# Altium footprint library Inductor_SMD.PcbLib: 587 footprints (part 35 of 37)
Each footprint in its own frame and in the unit in brackets; x right, y up, seen from the top. Pads: shape width x height; smd on the part's side, far side on the other; paste and mask are expansions set on the pad; w line width, h text height; cw(c..) or ccw(c..) is an arc to the next point about the centre after c.
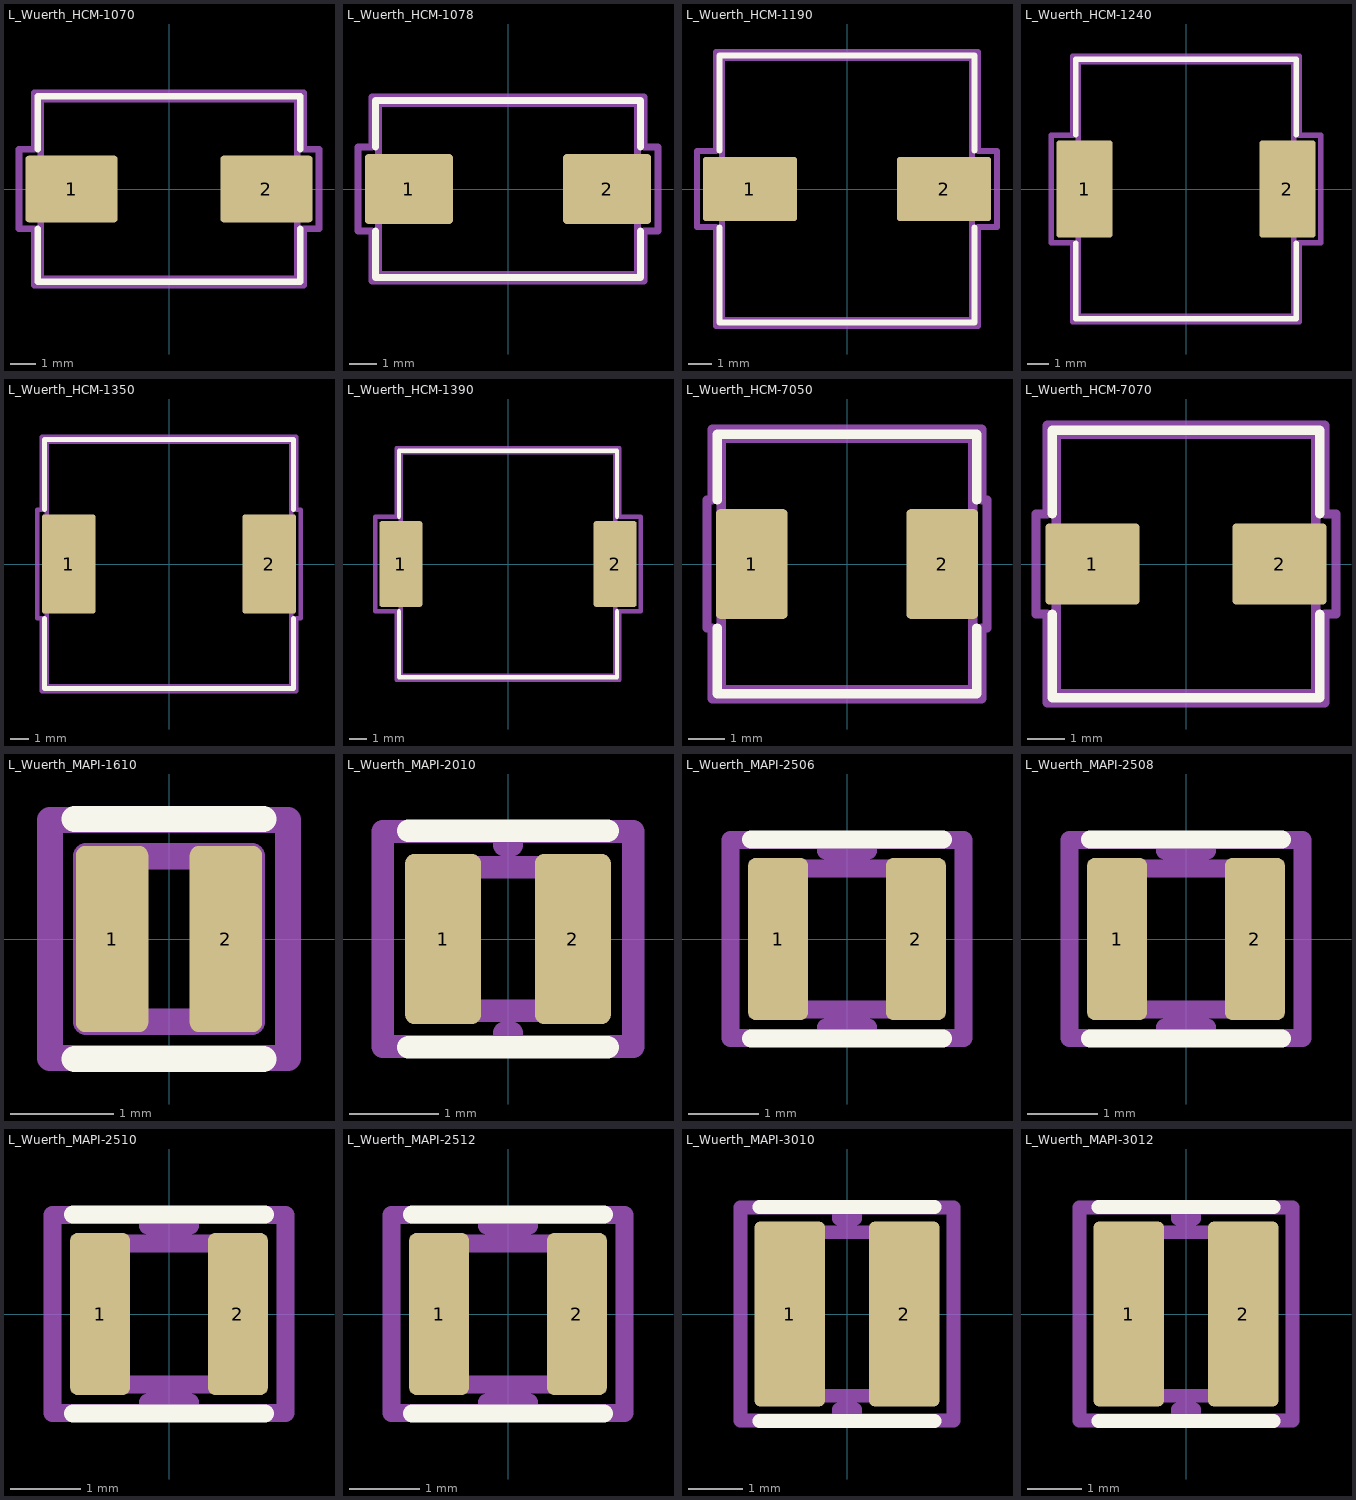
[diagram p34: the footprints below, top view; thin cyan lines are the x and y axes]

## L_Wuerth_HCM-1070 [mm] "L_Wuerth_HCM-1070"
pads (2):
  rrect10% 3.6x2.6 smd: 1(-3.8,0) 2(3.8,0)
F.SilkS:
  lines w0.254: -5.11,-1.56 -5.11,-3.61 5.11,-3.61 5.11,-1.56 ; -5.11,1.56 -5.11,3.61 5.11,3.61 5.11,1.56
Top Assembly:
  lines w0.254: -5,-3.5 -5,3.5 5,3.5 5,-3.5 -5,-3.5
  text "'.Designator'" at -4.047,-0.84 h1
Top Courtyard:
  lines w0.254: -5.85,-1.55 -5.85,1.55 -5.25,1.55 -5.25,3.75 5.25,3.75 5.25,1.55 5.85,1.55 5.85,-1.55 5.25,-1.55 5.25,-3.75 -5.25,-3.75 -5.25,-1.55 -5.85,-1.55
Top Designator:
  text ".Designator" at -7.618,-0.508 h1.52

## L_Wuerth_HCM-1078 [mm] "L_Wuerth_HCM-1078"
pads (2):
  rrect10% 3.2x2.54 smd: 1(-3.6,0) 2(3.6,0)
F.SilkS:
  lines w0.254: -4.81,-1.53 -4.81,-3.21 4.81,-3.21 4.81,-1.53 ; -4.81,1.53 -4.81,3.21 4.81,3.21 4.81,1.53
Top Assembly:
  lines w0.254: -4.7,-3.1 -4.7,3.1 4.7,3.1 4.7,-3.1 -4.7,-3.1
  text "'.Designator'" at -4.047,-0.84 h1
Top Courtyard:
  lines w0.254: -5.45,-1.52 -5.45,1.52 -4.95,1.52 -4.95,3.35 4.95,3.35 4.95,1.52 5.45,1.52 5.45,-1.52 4.95,-1.52 4.95,-3.35 -4.95,-3.35 -4.95,-1.52 -5.45,-1.52
Top Designator:
  text ".Designator" at -7.618,-0.508 h1.52

## L_Wuerth_HCM-1190 [mm] "L_Wuerth_HCM-1190"
pads (2):
  rrect9% 3.95x2.7 smd: 1(-4.075,0) 2(4.075,0)
F.SilkS:
  lines w0.254: -5.36,-1.61 -5.36,-5.61 5.36,-5.61 5.36,-1.61 ; -5.36,1.61 -5.36,5.61 5.36,5.61 5.36,1.61
Top Assembly:
  lines w0.254: -5.25,-5.5 5.25,-5.5 5.25,5.5 -5.25,5.5 -5.25,-5.5
  text "'.Designator'" at -4.047,-0.84 h1
Top Courtyard:
  lines w0.254: -6.3,-1.6 -5.5,-1.6 -5.5,-5.75 5.5,-5.75 5.5,-1.6 6.3,-1.6 6.3,1.6 5.5,1.6 5.5,5.75 -5.5,5.75 -5.5,1.6 -6.3,1.6 -6.3,-1.6
Top Designator:
  text ".Designator" at -7.618,-0.508 h1.52

## L_Wuerth_HCM-1240 [mm] "L_Wuerth_HCM-1240"
pads (2):
  rrect10% 2.6x4.5 smd: 1(-4.7,0) 2(4.7,0)
F.SilkS:
  lines w0.254: -5.11,-2.51 -5.11,-6.01 5.11,-6.01 5.11,-2.51 ; -5.11,2.51 -5.11,6.01 5.11,6.01 5.11,2.51
Top Assembly:
  lines w0.254: -5,-5.9 5,-5.9 5,5.9 -5,5.9 -5,-5.9
  text "'.Designator'" at -4.047,-0.84 h1
Top Courtyard:
  lines w0.254: -6.25,-2.5 -5.25,-2.5 -5.25,-6.15 5.25,-6.15 5.25,-2.5 6.25,-2.5 6.25,2.5 5.25,2.5 5.25,6.15 -5.25,6.15 -5.25,2.5 -6.25,2.5 -6.25,-2.5
Top Designator:
  text ".Designator" at -7.618,-0.508 h1.52

## L_Wuerth_HCM-1350 [mm] "L_Wuerth_HCM-1350"
pads (2):
  rrect9% 2.9x5.4 smd: 1(-5.45,0) 2(5.45,0)
F.SilkS:
  lines w0.254: -6.76,-2.96 -6.76,-6.76 6.76,-6.76 6.76,-2.96 ; -6.76,2.96 -6.76,6.76 6.76,6.76 6.76,2.96
Top Assembly:
  lines w0.254: -6.65,-6.65 6.65,-6.65 6.65,6.65 -6.65,6.65 -6.65,-6.65
  text "'.Designator'" at -4.047,-0.84 h1
Top Courtyard:
  lines w0.254: -7.15,-2.95 -6.9,-2.95 -6.9,-6.9 6.9,-6.9 6.9,-2.95 7.15,-2.95 7.15,2.95 6.9,2.95 6.9,6.9 -6.9,6.9 -6.9,2.95 -7.15,2.95 -7.15,-2.95
Top Designator:
  text ".Designator" at -7.618,-0.508 h1.52

## L_Wuerth_HCM-1390 [mm]
pads (2):
  rrect10% 2.5x5 smd: 1(-6.25,0) 2(6.25,0)
F.SilkS:
  lines w0.254: -6.36,-2.76 -6.36,-6.61 6.36,-6.61 6.36,-2.76 ; -6.36,2.76 -6.36,6.61 6.36,6.61 6.36,2.76
Top Assembly:
  lines w0.254: -6.25,-6.5 -6.25,6.5 6.25,6.5 6.25,-6.5 -6.25,-6.5
  text "'.Designator'" at -4.047,-0.84 h1
Top Courtyard:
  lines w0.254: -7.75,-2.75 -7.75,2.75 -6.5,2.75 -6.5,6.75 6.5,6.75 6.5,2.75 7.75,2.75 7.75,-2.75 6.5,-2.75 6.5,-6.75 -6.5,-6.75 -6.5,-2.75 -7.75,-2.75
Top Designator:
  text ".Designator" at -7.618,-0.508 h1.52

## L_Wuerth_HCM-7050 [mm] "L_Wuerth_HCM-7050"
pads (2):
  rrect12% 2x3.05 smd: 1(-2.65,0) 2(2.65,0)
F.SilkS:
  lines w0.254: -3.61,-1.785 -3.61,-3.61 3.61,-3.61 3.61,-1.785 ; -3.61,1.785 -3.61,3.61 3.61,3.61 3.61,1.785
Top Assembly:
  lines w0.254: -3.5,-3.5 -3.5,3.5 3.5,3.5 3.5,-3.5 -3.5,-3.5
  text "'.Designator'" at -4.047,-0.84 h1
Top Courtyard:
  lines w0.254: -3.9,-1.78 -3.9,1.78 -3.75,1.78 -3.75,3.75 3.75,3.75 3.75,1.78 3.9,1.78 3.9,-1.78 3.75,-1.78 3.75,-3.75 -3.75,-3.75 -3.75,-1.78 -3.9,-1.78
Top Designator:
  text ".Designator" at -7.702,-0.508 h1.52

## L_Wuerth_HCM-7070 [mm] "L_Wuerth_HCM-7070"
pads (2):
  rrect11% 2.55x2.2 smd: 1(-2.525,0) 2(2.525,0)
F.SilkS:
  lines w0.254: -3.61,-1.36 -3.61,-3.61 3.61,-3.61 3.61,-1.36 ; -3.61,1.36 -3.61,3.61 3.61,3.61 3.61,1.36
Top Assembly:
  lines w0.254: -3.5,-3.5 -3.5,3.5 3.5,3.5 3.5,-3.5 -3.5,-3.5
  text "'.Designator'" at -4.047,-0.84 h1
Top Courtyard:
  lines w0.254: -4.05,-1.35 -4.05,1.35 -3.75,1.35 -3.75,3.75 3.75,3.75 3.75,1.35 4.05,1.35 4.05,-1.35 3.75,-1.35 3.75,-3.75 -3.75,-3.75 -3.75,-1.35 -4.05,-1.35
Top Designator:
  text ".Designator" at -7.627,-0.508 h1.52

## L_Wuerth_MAPI-1610 [mm] "L_Wuerth_MAPI-1610"
pads (2):
  rrect25% 0.7x1.8 smd: 1(-0.55,0) 2(0.55,0)
F.SilkS:
  lines w0.254: -0.91,-1.16 0.91,-1.16 ; -0.91,1.16 0.91,1.16
Top Assembly:
  lines w0.254: -0.8,-0.8 -0.8,0.8 0.8,0.8 0.8,-0.8 -0.8,-0.8
  text "'.Designator'" at -1.619,-0.336 h0.4
Top Courtyard:
  lines w0.254: -1.15,-1.15 -1.15,1.15 1.15,1.15 1.15,-1.15 -1.15,-1.15
Top Designator:
  text ".Designator" at -7.678,-0.508 h1.52
3D body "L_Wuerth_MAPI-1610.step": height 1, standoff 0, extent -0.8,-0.8 0.8,0.8

## L_Wuerth_MAPI-2010 [mm] "L_Wuerth_MAPI-2010"
pads (2):
  rrect25% 0.85x1.9 smd: 1(-0.725,0) 2(0.725,0)
F.SilkS:
  lines w0.254: -1.11,-1.21 1.11,-1.21 ; -1.11,1.21 1.11,1.21
Top Assembly:
  lines w0.254: -1,-0.8 -1,0.8 1,0.8 1,-0.8 -1,-0.8
  text "'.Designator'" at -2.028,-0.425 h0.5
Top Courtyard:
  lines w0.254: -1.4,-1.2 -1.4,1.2 -0.04,1.2 -0.04,1.05 0.04,1.05 0.04,1.2 1.4,1.2 1.4,-1.2 0.04,-1.2 0.04,-1.05 -0.04,-1.05 -0.04,-1.2 -1.4,-1.2
Top Designator:
  text ".Designator" at -7.698,-0.508 h1.52
3D body "L_Wuerth_MAPI-2010.step": height 1, standoff 0, extent -1,-0.8 1,0.8

## L_Wuerth_MAPI-2506 [mm] "L_Wuerth_MAPI-2506"
pads (2):
  rrect25% 0.85x2.3 smd: 1(-0.975,0) 2(0.975,0)
F.SilkS:
  lines w0.254: -1.36,-1.41 1.36,-1.41 ; -1.36,1.41 1.36,1.41
Top Assembly:
  lines w0.254: -1.25,-1 -1.25,1 1.25,1 1.25,-1 -1.25,-1
  text "'.Designator'" at -2.506,-0.518 h0.62
Top Courtyard:
  lines w0.254: -1.65,-1.4 -1.65,1.4 -0.3,1.4 -0.3,1.25 0.3,1.25 0.3,1.4 1.65,1.4 1.65,-1.4 0.3,-1.4 0.3,-1.25 -0.3,-1.25 -0.3,-1.4 -1.65,-1.4
Top Designator:
  text ".Designator" at -7.708,-0.508 h1.52
3D body "L_Wuerth_MAPI-2506.step": height 0.6, standoff 0, extent -1.25,-1 1.25,1

## L_Wuerth_MAPI-2508 [mm] "L_Wuerth_MAPI-2508"
pads (2):
  rrect25% 0.85x2.3 smd: 1(-0.975,0) 2(0.975,0)
F.SilkS:
  lines w0.254: -1.36,-1.41 1.36,-1.41 ; -1.36,1.41 1.36,1.41
Top Assembly:
  lines w0.254: -1.25,-1 -1.25,1 1.25,1 1.25,-1 -1.25,-1
  text "'.Designator'" at -2.506,-0.518 h0.62
Top Courtyard:
  lines w0.254: -1.65,-1.4 -1.65,1.4 -0.3,1.4 -0.3,1.25 0.3,1.25 0.3,1.4 1.65,1.4 1.65,-1.4 0.3,-1.4 0.3,-1.25 -0.3,-1.25 -0.3,-1.4 -1.65,-1.4
Top Designator:
  text ".Designator" at -7.708,-0.508 h1.52
3D body "L_Wuerth_MAPI-2508.step": height 0.8, standoff 0, extent -1.25,-1 1.25,1

## L_Wuerth_MAPI-2510 [mm] "L_Wuerth_MAPI-2510"
pads (2):
  rrect25% 0.85x2.3 smd: 1(-0.975,0) 2(0.975,0)
F.SilkS:
  lines w0.254: -1.36,-1.41 1.36,-1.41 ; -1.36,1.41 1.36,1.41
Top Assembly:
  lines w0.254: -1.25,-1 1.25,-1 1.25,1 -1.25,1 -1.25,-1
  text "'.Designator'" at -2.506,-0.518 h0.62
Top Courtyard:
  lines w0.254: -1.65,-1.4 -0.3,-1.4 -0.3,-1.25 0.3,-1.25 0.3,-1.4 1.65,-1.4 1.65,1.4 0.3,1.4 0.3,1.25 -0.3,1.25 -0.3,1.4 -1.65,1.4 -1.65,-1.4
Top Designator:
  text ".Designator" at -7.708,-0.508 h1.52
3D body "L_Wuerth_MAPI-2510.step": height 1, standoff 0, extent -1.25,-1 1.25,1

## L_Wuerth_MAPI-2512 [mm] "L_Wuerth_MAPI-2512"
pads (2):
  rrect25% 0.85x2.3 smd: 1(-0.975,0) 2(0.975,0)
F.SilkS:
  lines w0.254: -1.36,-1.41 1.36,-1.41 ; -1.36,1.41 1.36,1.41
Top Assembly:
  lines w0.254: -1.25,-1 -1.25,1 1.25,1 1.25,-1 -1.25,-1
  text "'.Designator'" at -2.506,-0.518 h0.62
Top Courtyard:
  lines w0.254: -1.65,-1.4 -1.65,1.4 -0.3,1.4 -0.3,1.25 0.3,1.25 0.3,1.4 1.65,1.4 1.65,-1.4 0.3,-1.4 0.3,-1.25 -0.3,-1.25 -0.3,-1.4 -1.65,-1.4
Top Designator:
  text ".Designator" at -7.708,-0.508 h1.52
3D body "L_Wuerth_MAPI-2512.step": height 1.2, standoff 0, extent -1.25,-1 1.25,1

## L_Wuerth_MAPI-3010 [mm] "L_Wuerth_MAPI-3010"
pads (2):
  rrect19% 1.3x3.4 smd: 1(-1.05,0) 2(1.05,0)
F.SilkS:
  lines w0.254: -1.61,-1.96 1.61,-1.96 ; -1.61,1.96 1.61,1.96
Top Assembly:
  lines w0.254: -1.5,-1.5 -1.5,1.5 1.5,1.5 1.5,-1.5 -1.5,-1.5
  text "'.Designator'" at -3.033,-0.628 h0.75
Top Courtyard:
  lines w0.254: -1.95,-1.95 -1.95,1.95 -0.15,1.95 -0.15,1.75 0.15,1.75 0.15,1.95 1.95,1.95 1.95,-1.95 0.15,-1.95 0.15,-1.75 -0.15,-1.75 -0.15,-1.95 -1.95,-1.95
Top Designator:
  text ".Designator" at -7.728,-0.508 h1.52
3D body "L_Wuerth_MAPI-3010.step": height 1, standoff 0, extent -1.5,-1.5 1.5,1.5

## L_Wuerth_MAPI-3012 [mm] "L_Wuerth_MAPI-3012"
pads (2):
  rrect19% 1.3x3.4 smd: 1(-1.05,0) 2(1.05,0)
F.SilkS:
  lines w0.254: -1.61,-1.96 1.61,-1.96 ; -1.61,1.96 1.61,1.96
Top Assembly:
  lines w0.254: -1.5,-1.5 1.5,-1.5 1.5,1.5 -1.5,1.5 -1.5,-1.5
  text "'.Designator'" at -3.033,-0.628 h0.75
Top Courtyard:
  lines w0.254: -1.95,-1.95 -0.15,-1.95 -0.15,-1.75 0.15,-1.75 0.15,-1.95 1.95,-1.95 1.95,1.95 0.15,1.95 0.15,1.75 -0.15,1.75 -0.15,1.95 -1.95,1.95 -1.95,-1.95
Top Designator:
  text ".Designator" at -7.728,-0.508 h1.52
3D body "L_Wuerth_MAPI-3012.step": height 1.2, standoff 0, extent -1.5,-1.5 1.5,1.5